# EAGLE library part ADA4177-4ARZ-R7 (library OpAmpADA4177-4)
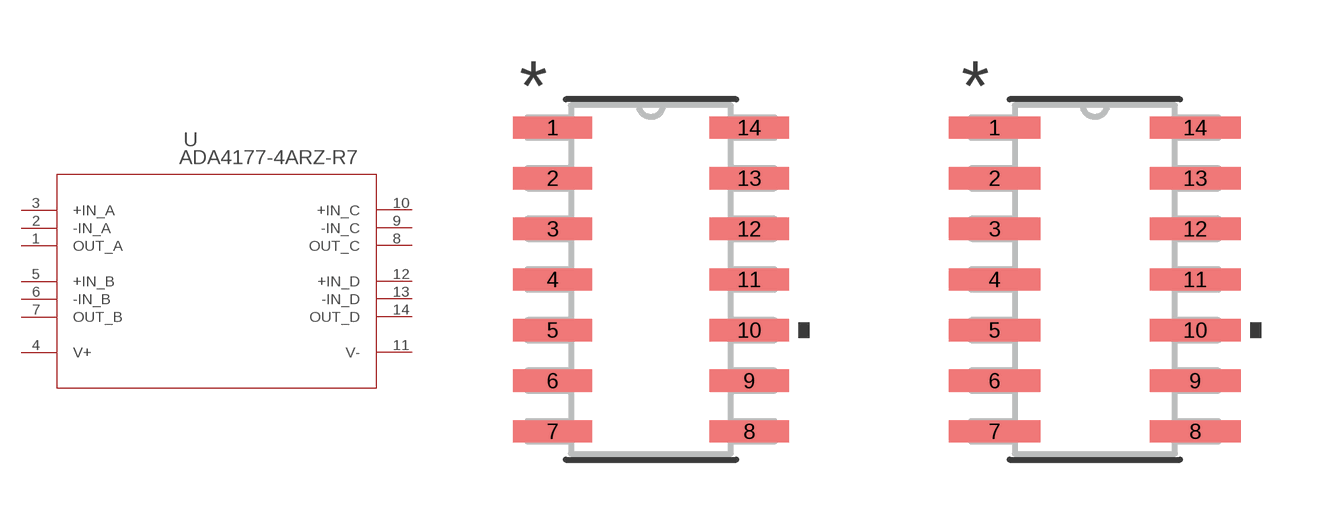
[diagram p0: symbol with the pads of R_14_ADI; footprints R_14_ADI, R_14_ADI-M]

Designator prefix U

## ADA4177-4ARZ-R7 (BUILT_BY: EMA_UL_Team; MANUFACTURER_PART_NUMBER: ADA4177-4ARZ-R7; SOURCELIBRARY: Analog_2016-09-28; VENDOR: Analog Devices Inc)  [R_14_ADI]
1  OUT_A  pas
2  -IN_A  pas
3  +IN_A  pas
4  V+  pas
5  +IN_B  pas
6  -IN_B  pas
7  OUT_B  pas
8  OUT_C  pas
9  -IN_C  pas
10  +IN_C  pas
11  V-  pas
12  +IN_D  pas
13  -IN_D  pas
14  OUT_D  pas

## ADA4177-4ARZ-R7R_14_ADI-M (BUILT_BY: EMA_UL_Team; MANUFACTURER_PART_NUMBER: ADA4177-4ARZ-R7; SOURCELIBRARY: Analog_2016-09-28; VENDOR: Analog Devices Inc)  [R_14_ADI-M]
Pads as for R_14_ADI

## ADA4177-4ARZ-R7R_14_ADI-L (BUILT_BY: EMA_UL_Team; MANUFACTURER_PART_NUMBER: ADA4177-4ARZ-R7; SOURCELIBRARY: Analog_2016-09-28; VENDOR: Analog Devices Inc)  [R_14_ADI-L]
Pads as for R_14_ADI

## Footprint R_14_ADI (pad centres in mm)
smd 1.981 x 0.559: 1 -2.464,3.81; 2 -2.464,2.54; 3 -2.464,1.27; 4 -2.464,0; 5 -2.464,-1.27; 6 -2.464,-2.54; 7 -2.464,-3.81; 8 2.464,-3.81; 9 2.464,-2.54; 10 2.464,-1.27; 11 2.464,0; 12 2.464,1.27; 13 2.464,2.54; 14 2.464,3.81

## Footprint R_14_ADI-M (pad centres in mm)
smd 2.286 x 0.559: 1 -2.515,3.81; 2 -2.515,2.54; 3 -2.515,1.27; 4 -2.515,0; 5 -2.515,-1.27; 6 -2.515,-2.54; 7 -2.515,-3.81; 8 2.515,-3.81; 9 2.515,-2.54; 10 2.515,-1.27; 11 2.515,0; 12 2.515,1.27; 13 2.515,2.54; 14 2.515,3.81

## Footprint R_14_ADI-L (pad centres in mm)
smd 1.676 x 0.508: 1 -2.413,3.81; 2 -2.413,2.54; 3 -2.413,1.27; 4 -2.413,0; 5 -2.413,-1.27; 6 -2.413,-2.54; 7 -2.413,-3.81; 8 2.413,-3.81; 9 2.413,-2.54; 10 2.413,-1.27; 11 2.413,0; 12 2.413,1.27; 13 2.413,2.54; 14 2.413,3.81